# EAGLE library part PCA82C251T/YM,118 (library PCA82C251T_YM_118)
CAN transceiver for 24 V systems
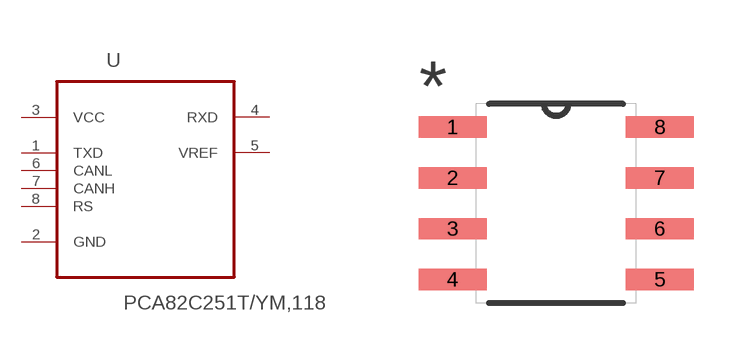
[diagram p0: symbol with the pads of SOIC127P600X175-8N; footprint SOIC127P600X175-8N]

Designator prefix U

## PCA82C251T/YM,118 (Availability: Good; Description: PCA82C251 Series 5.5 V 1 MBd SMT CAN transceiver for 24 V System - SOIC-8; MF: NXP Semiconductors; MP: PCA82C251T/YM,118; Package: SOIC-8 NXP Semiconductors; Price: 1.30 USD)  [SOIC127P600X175-8N]
1  TXD  in
2  GND  pas
3  VCC  pwr
4  RXD  out
5  VREF  out
6  CANL
7  CANH
8  RS  in

## Footprint SOIC127P600X175-8N (pad centres in mm)
smd 1.702 x 0.533: 1 -2.591,1.905; 2 -2.591,0.635; 3 -2.591,-0.635; 4 -2.591,-1.905; 5 2.591,-1.905; 6 2.591,-0.635; 7 2.591,0.635; 8 2.591,1.905